# Altium footprint library Crystal.PcbLib: 2 footprints
Each footprint in its own frame and in the unit in brackets; x right, y up, seen from the top. Pads: shape width x height; smd on the part's side, far side on the other; paste and mask are expansions set on the pad; w line width, h text height; cw(c..) or ccw(c..) is an arc to the next point about the centre after c.
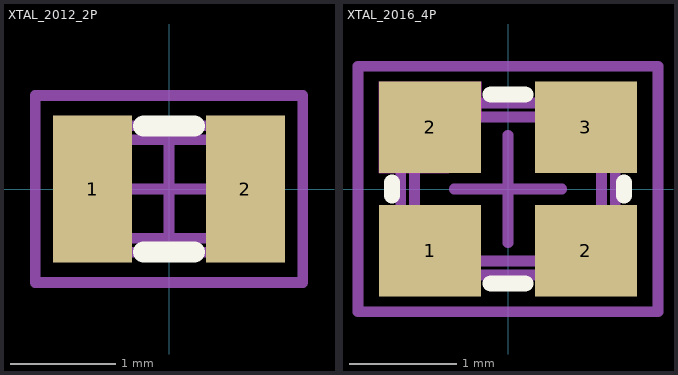
[diagram p0: the footprints below, top view; thin cyan lines are the x and y axes]

## XTAL_2012_2P [mm] "XTAL SMD 2.0 x 1.2 mm"
height 0.8
pads (2):
  rect 0.75x1.4 smd: 1(-0.725,0) 2(0.725,0)
Top Overlay:
  lines w0.2: -0.24,-0.6 0.24,-0.6 ; -0.24,0.6 0.24,0.6
Top Component Center:
  lines w0.1: -0.5,0 0.5,0 ; 0,-0.5 0,0.5
Top Assembly:
  lines w0.1: -1,-0.5 cw(c-1,-0.6) -0.9,-0.6 0.9,-0.6 cw(c1,-0.6) 1,-0.5 1,0.5 cw(c1,0.6) 0.9,0.6 -0.9,0.6 cw(c-1,0.6) -1,0.5 -1,-0.5 ; -0.87,-0.37 ccw(c-0.77,-0.37) -0.77,-0.47 0.77,-0.47 ccw(c0.77,-0.37) 0.87,-0.37 0.87,0.37 ccw(c0.77,0.37) 0.77,0.47 -0.77,0.47 ccw(c-0.77,0.37) -0.87,0.37 -0.87,-0.37
Top Courtyard:
  lines w0.102: -1.27,-0.889 1.27,-0.889 1.27,0.889 -1.27,0.889 -1.27,-0.889
3D body: height 0.6, standoff 0.15, extent -0.825,-0.4 0.825,0.4
3D body "User Library-ABS06.STEP": height 0.6, standoff 0, extent -1,-0.61 1,0.61

## XTAL_2016_4P [mm] "Crystal 2.0 x 1.6 mm"
height 0.5
pads (4):
  rect 0.95x0.85 smd: 1(-0.725,-0.575) 2(-0.725,0.575) 2(0.725,-0.575) 3(0.725,0.575)
Top Layer keep-out:
  lines w0.01: -0.55,0.15 -1.2,0.15 -1.2,1 -0.25,1 -0.25,0.65
Top Overlay:
  lines w0.152: -1.08,-0.06 -1.08,0.06 ; -0.16,-0.88 0.16,-0.88 ; -0.16,0.88 0.16,0.88 ; 1.08,-0.06 1.08,0.06
Top Component Center:
  lines w0.1: -0.5,0 0.5,0 ; 0,-0.5 0,0.5
Top Assembly:
  lines w0.1: -1,-0.7 cw(c-1,-0.8) -0.9,-0.8 0.9,-0.8 cw(c1,-0.8) 1,-0.7 1,0.7 cw(c1,0.8) 0.9,0.8 -0.9,0.8 cw(c-1,0.8) -1,0.7 -1,-0.7 ; -0.87,-0.57 ccw(c-0.77,-0.57) -0.77,-0.67 0.77,-0.67 ccw(c0.77,-0.57) 0.87,-0.57 0.87,0.57 ccw(c0.77,0.57) 0.77,0.67 -0.77,0.67 ccw(c-0.77,0.57) -0.87,0.57 -0.87,-0.57
Top Courtyard:
  lines w0.102: -1.397,-1.143 1.397,-1.143 1.397,1.143 -1.397,1.143 -1.397,-1.143
3D body: height 0.56, standoff 0.15, extent -0.7,-0.65 0.7,0.65
3D body "User Library-GeyerElectronics_KX5.step": height 0.56, standoff 0, extent -1.05,-0.85 1.05,0.85